# Altium footprint library Microfit2pin.PcbLib: 1 footprints
Each footprint in its own frame and in the unit in brackets; x right, y up, seen from the top. Pads: shape width x height; smd on the part's side, far side on the other; paste and mask are expansions set on the pad; w line width, h text height; cw(c..) or ccw(c..) is an arc to the next point about the centre after c.
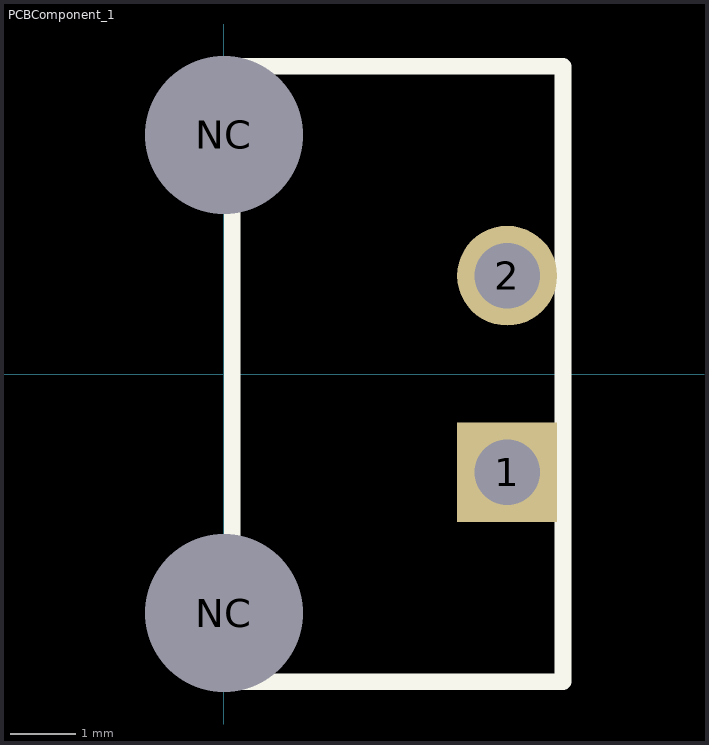
[diagram p0: the footprint, top view; thin cyan lines are the x and y axes]

## PCBComponent_1 [mm]
pads (4):
  rect 1.524x1.524 hole 1: 1(4.32,-1.5)
  round 1.524 hole 1: 2(4.32,1.5)
  round 1.524 hole 2.41: NC(0,-3.65) NC(0,3.65)
Top Overlay:
  lines w0.254: 0.127,-4.698 5.173,-4.698 5.173,4.698 0.127,4.698 0.127,-4.698
3D body "436500203.stp": height 5.68, standoff -3.11, extent -4.569,-4.825 5.331,4.825